# Altium footprint library MCU_IF.PcbLib: 1 footprints
Each footprint in its own frame and in the unit in brackets; x right, y up, seen from the top. Pads: shape width x height; smd on the part's side, far side on the other; paste and mask are expansions set on the pad; w line width, h text height; cw(c..) or ccw(c..) is an arc to the next point about the centre after c.
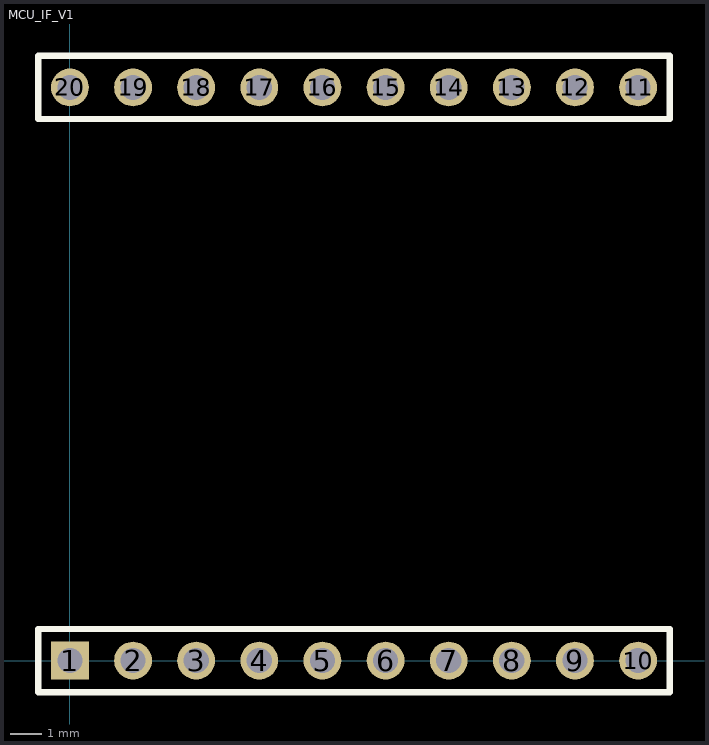
[diagram p0: the footprint, top view; thin cyan lines are the x and y axes]

## MCU_IF_V1 [mm]
pads (20):
  rect 1.2x1.2 hole 0.8: 1(0,0)
  round 1.2 hole 0.8: 2(2,0) 3(4,0) 4(6,0) 5(8,0) 6(10,0) 7(12,0) 8(14,0) 9(16,0) 10(18,0) 11(18,18.161) 12(16,18.161) 13(14,18.161) 14(12,18.161) 15(10,18.161) 16(8,18.161) 17(6,18.161) 18(4,18.161) 19(2,18.161) 20(0,18.161)
Top Overlay:
  lines w0.2: -1,-1 19,-1 19,1 -1,1 -1,-1 ; -1,17.161 19,17.161 19,19.161 -1,19.161 -1,17.161
3D body: height 6, standoff -2.8, extent -0.975,17.161 18.975,19.161
3D body: height 6, standoff -2.8, extent -0.975,-1 18.975,1